# EAGLE library part SN74LS640N (library User-Submitted)
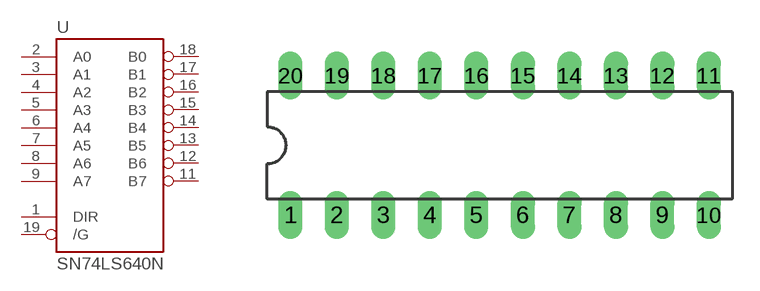
[diagram p20: symbol with the pads of DIL20; footprint DIL20]

Designator prefix -

## SN74LS640N  [DIL20]
1  DIR  in
2  A0  in
3  A1  in
4  A2  in
5  A3  in
6  A4  in
7  A5  in
8  A6  in
9  A7  in
11  B7  hiz
12  B6  hiz
13  B5  hiz
14  B4  hiz
15  B3  hiz
16  B2  hiz
17  B1  hiz
18  B0  hiz
19  /G  in

## Footprint DIL20 (pad centres in mm)
Dual In Line Package
drill 0.813 long: 1 -11.43,-3.81; 2 -8.89,-3.81; 3 -6.35,-3.81; 4 -3.81,-3.81; 5 -1.27,-3.81; 6 1.27,-3.81; 7 3.81,-3.81; 8 6.35,-3.81; 9 8.89,-3.81; 10 11.43,-3.81; 11 11.43,3.81; 12 8.89,3.81; 13 6.35,3.81; 14 3.81,3.81; 15 1.27,3.81; 16 -1.27,3.81; 17 -3.81,3.81; 18 -6.35,3.81; 19 -8.89,3.81; 20 -11.43,3.81